# Altium footprint library Revo_element.PcbLib: 178 footprints (part 4 of 12)
Each footprint in its own frame and in the unit in brackets; x right, y up, seen from the top. Pads: shape width x height; smd on the part's side, far side on the other; paste and mask are expansions set on the pad; w line width, h text height; cw(c..) or ccw(c..) is an arc to the next point about the centre after c.
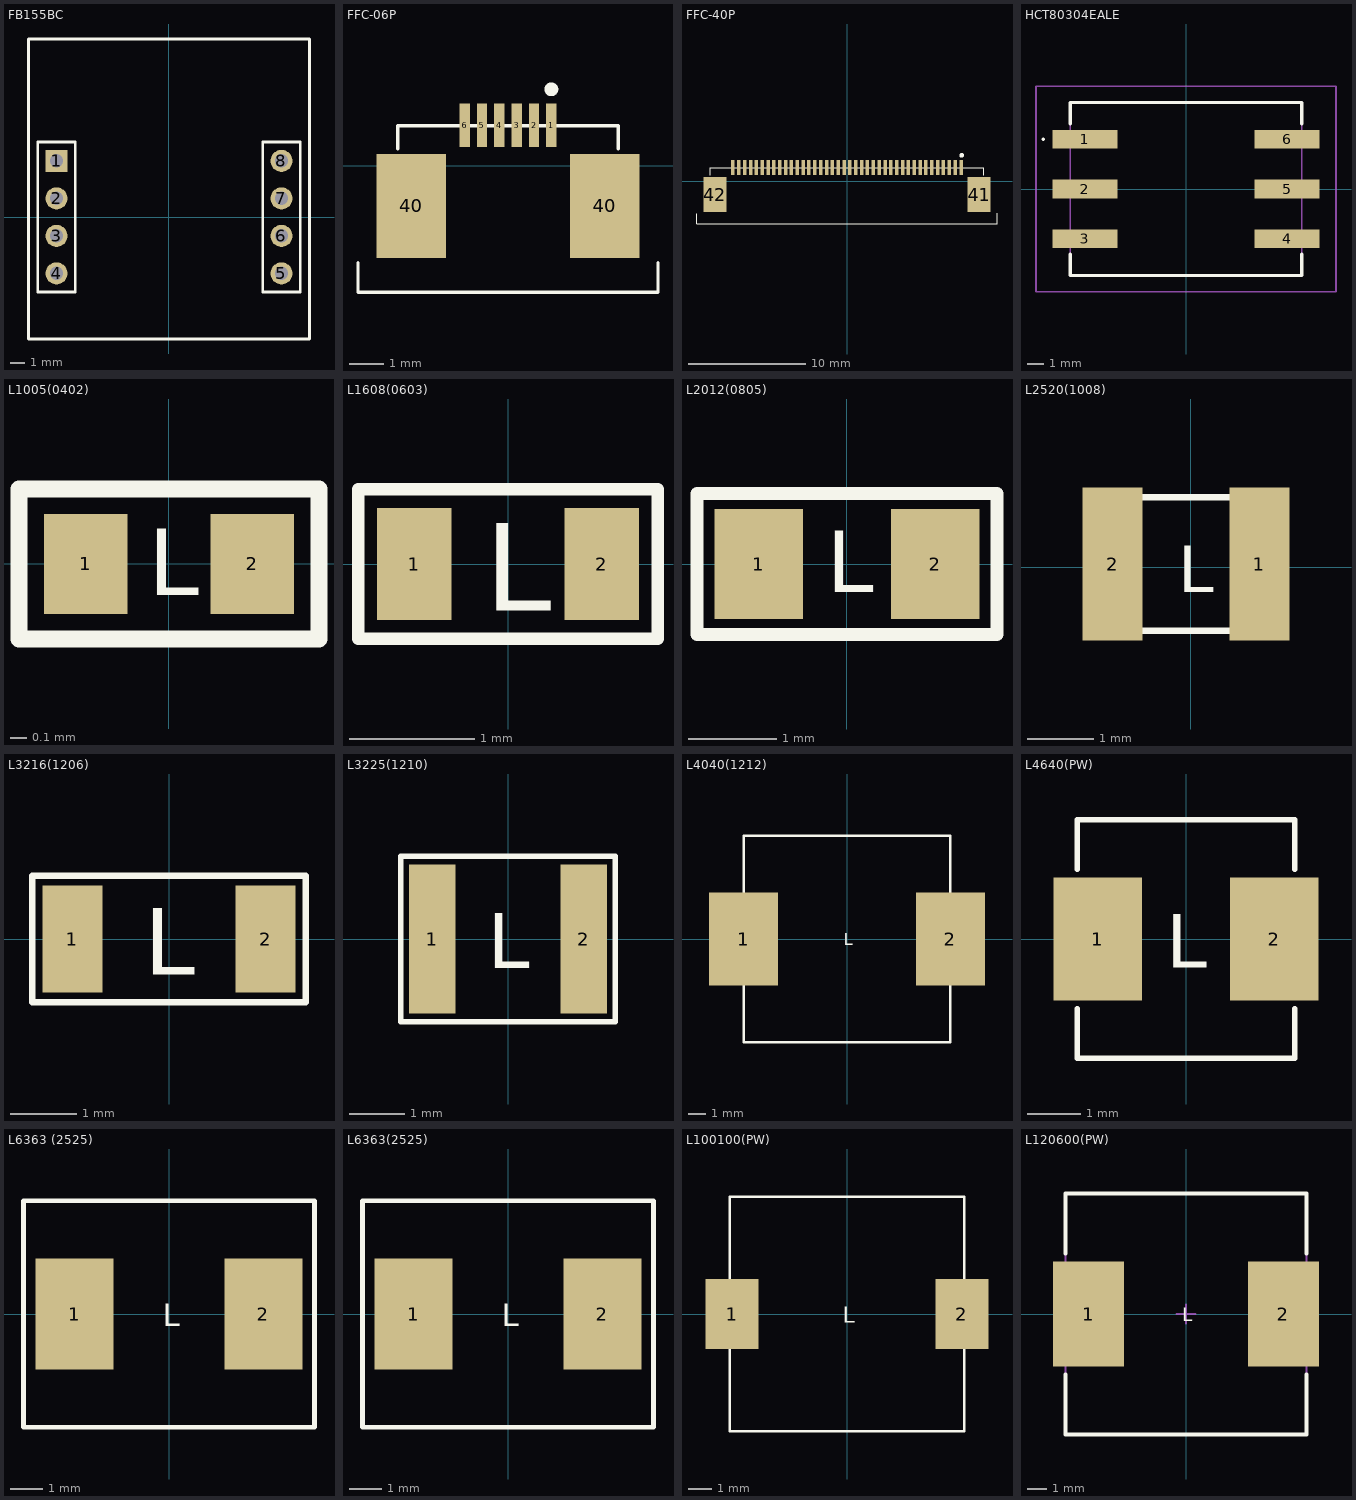
[diagram p3: the footprints below, top view; thin cyan lines are the x and y axes]

## FB155BC [mm]
pads (8):
  rect 1.5x1.5 hole 0.9: 1(-7.62,3.81)
  round 1.5 hole 0.9: 2(-7.62,1.27) 3(-7.62,-1.27) 4(-7.62,-3.81) 5(7.62,-3.81) 6(7.62,-1.27) 7(7.62,1.27) 8(7.62,3.81)
Top Overlay:
  lines w0.2: -9.525,-8.255 9.525,-8.255 9.525,12.065 -9.525,12.065 -9.525,-8.255 ; -8.89,-5.08 -8.89,5.08 -6.35,5.08 -6.35,-5.08 -8.89,-5.08 ; 6.35,-5.08 6.35,5.08 8.89,5.08 8.89,-5.08 6.35,-5.08
3D body: height 0.51, standoff 0, extent -9.423,-8.23 9.5,11.991

## FFC-06P [mm] "7.0' 40-pin TFT Display - 800x480 with Touchscreen"
pads (8):
  rect 0.3x1.25 smd: 1(-7.25,1.163) 2(-7.75,1.163) 3(-8.25,1.163) 4(-8.75,1.163) 5(-9.25,1.163) 6(-9.75,1.163)
  rect 2x3 smd: 40(-11.29,-1.162) 40(-5.71,-1.162)
Top Overlay:
  lines w0.1: -12.825,-2.8 -12.825,-3.65 -4.2,-3.65 ; -11.675,0.488 -11.675,1.15 -5.35,1.15 ; -5.325,0.488 -5.325,1.15 ; -4.175,-3.65 -4.175,-2.8
  lines w0.2: -7.25,2.1 cw(c-7.25,2.2) -7.25,2.3 cw(c-7.25,2.2) -7.25,2.1
3D body "FPC-6.stp": height 2.11, standoff 0, extent -12.15,-4.35 -4.85,1.5

## FFC-40P [mm] "7.0' 40-pin TFT Display - 800x480 with Touchscreen"
pads (42):
  rect 0.3x1.25 smd: 1(9.75,1.163) 2(9.25,1.163) 3(8.75,1.163) 4(8.25,1.163) 5(7.75,1.163) 6(7.25,1.163) 7(6.75,1.163) 8(6.25,1.163) 9(5.75,1.163) 10(5.25,1.163) 11(4.75,1.163) 12(4.25,1.163) 13(3.75,1.163) 14(3.25,1.163) 15(2.75,1.163) 16(2.25,1.163) 17(1.75,1.163) 18(1.25,1.163) 19(0.75,1.163) 20(0.25,1.163) 21(-0.25,1.163) 22(-0.75,1.163) 23(-1.25,1.163) 24(-1.75,1.163) 25(-2.25,1.163) 26(-2.75,1.163) 27(-3.25,1.163) 28(-3.75,1.163) 29(-4.25,1.163) 30(-4.75,1.163) 31(-5.25,1.163) 32(-5.75,1.163) 33(-6.25,1.163) 34(-6.75,1.163) 35(-7.25,1.163) 36(-7.75,1.163) 37(-8.25,1.163) 38(-8.75,1.163) 39(-9.25,1.163) 40(-9.75,1.163)
  rect 2x3 smd: 41(11.29,-1.162) 42(-11.29,-1.162)
Top Overlay:
  lines w0.1: -12.825,-2.8 -12.825,-3.65 12.825,-3.65 12.825,-2.75 ; -11.675,0.488 -11.675,1.15 11.675,1.15 11.675,0.488
  lines w0.2: 9.8,2.1 ccw(c9.8,2.2) 9.8,2.3 ccw(c9.8,2.2) 9.8,2.1
3D body "FPC-40.stp": height 2.11, standoff 0, extent -12.18,-4.65 12.12,1.2

## HCT80304EALE [mm]
pads (6):
  rect 4x1.14 smd: 1(-6.2,3.05) 2(-6.2,0) 3(-6.2,-3.05) 4(6.2,-3.05) 5(6.2,0) 6(6.2,3.05)
Top Overlay:
  lines w0.1: -8.8,3.05 cw(c-8.75,3.05) -8.7,3.05 cw(c-8.75,3.05) -8.8,3.05
  lines w0.2: -7.1,-4 -7.1,-5.3 7.1,-5.3 7.1,-4 ; -7.1,4 -7.1,5.3 7.1,5.3 7.1,4
Mechanical 13:
  lines w0.1: -7.1,-5.3 7.1,-5.3 7.1,5.3 -7.1,5.3 -7.1,-5.3
Mechanical 15:
  lines w0.1: -9.2,-6.3 9.2,-6.3 9.2,6.3 -9.2,6.3 -9.2,-6.3
3D body "HCT80304EAL-E.stp": height 8.6, standoff 0, extent -8.086,-5.3 8.086,5.3

## L1005(0402) [mm] "Chip Inductor 1005(0402)"
pads (2):
  rect 0.5x0.6 smd: 1(-0.5,0) 2(0.5,0)
Top Overlay:
  lines w0.1: -0.9,-0.45 0.9,-0.45 0.9,0.45 -0.9,0.45 -0.9,-0.45
  text "L" at -0.125,-0.188 h0.4
3D body "User Library-Chip Inductor.step": height 0.5, standoff 0, extent -0.5,-0.3 0.5,0.3

## L1608(0603) [mm] "Chip Inductor 1608(0603)"
pads (2):
  rect 0.6x0.9 smd: 1(-0.75,0) 2(0.75,0)
Top Overlay:
  lines w0.1: -1.2,-0.6 -1.2,0.6 1.2,0.6 1.2,-0.6 -1.2,-0.6
  text "L" at -0.188,-0.375 h0.7
3D body "User Library-Chip Inductor.step": height 0.8, standoff 0, extent -0.8,-0.47 0.8,0.48

## L2012(0805) [mm] "Chip Inductor 2012(0805)"
pads (2):
  rect 1x1.25 smd: 1(-1,0) 2(1,0)
Top Overlay:
  lines w0.15: -1.7,-0.8 1.7,-0.8 1.7,-0.5 1.7,0.4 1.7,0.8 -1.7,0.8 -1.7,-0.8
  text "L" at -0.228,-0.321 h0.7
3D body "L_0805.stp": height 0.61, standoff 0.01, extent -1,-0.625 1,0.625

## L2520(1008) [mm] "Chip Inductor 2520(1008)"
pads (2):
  rect 0.9x2.3 smd: 1(1.029,0.051) 2(-1.171,0.051)
Top Overlay:
  lines w0.1: -1.321,-0.949 1.179,-0.949 1.179,1.051 -1.321,1.051 -1.321,-0.949
  text "L" at -0.188,-0.375 h0.7
Mechanical 13:
  text "L" at 0.054,0.239 h0.4
3D body: height 1.2, standoff 0, extent -1.321,-0.949 1.179,1.051

## L3216(1206) [mm] "Chip Inductor 3216(1206)"
height 1.6
pads (2):
  rect 0.9x1.6 smd: 1(-1.45,0) 2(1.45,0)
Top Overlay:
  lines w0.1: -2.05,-0.95 -2.05,0.95 2.05,0.95 2.05,-0.95 -2.05,-0.95
  text "L" at -0.37,-0.535 h1
3D body "User Library-Chip Resistor2.step": height 0.85, standoff 0.01, extent -1.6,-0.8 1.6,0.8

## L3225(1210) [mm] "Chip Inductor L3225(1210)"
height 1.6
pads (2):
  rect 0.85x2.7 smd: 1(-1.375,0) 2(1.375,0)
Top Overlay:
  lines w0.1: -1.95,-1.5 1.95,-1.5 1.95,1.5 -1.95,1.5 -1.95,-1.5
  text "L" at -0.37,-0.535 h1
3D body "LQM32PN1R0MG0L.stp": height 1, standoff 0, extent -1.6,-1.25 1.6,1.25

## L4040(1212) [mm]
pads (2):
  rect 4x5.4 smd: 1(-6,0) 2(6,0)
Top Overlay:
  lines w0.15: -6,-6 6,-6 6,6 -6,6 -6,-6
  text "L" at -0.188,-0.375 h0.7
3D body: height 8, standoff 0, extent -6,-6 6,6

## L4640(PW) [mm] "Chip Inductor 3216(1206)_150129"
height 1.6
pads (2):
  rect 1.65x2.3 smd: 1(-1.65,0) 2(1.65,0)
Top Overlay:
  lines w0.1: -2.03,-1.303 -2.03,-2.225 2.03,-2.225 2.03,-1.303 ; -2.03,1.303 -2.03,2.225 2.03,2.225 2.03,1.303
  text "L" at -0.37,-0.535 h1
3D body: height 1.5, standoff 0, extent -2.03,-2.225 2.03,2.225

## L6363 (2525) [mm] "IHLP2525CZER6R8MA1"
pads (2):
  rect 2.42x3.43 smd: 1(-2.92,0) 2(2.92,0)
Top Overlay:
  lines w0.15: -4.5,-3.5 -4.5,3.5 4.5,3.5 4.5,-3.5 -4.5,-3.5
  text "L" at -0.188,-0.375 h0.7
3D body: height 3, standoff 0, extent -3.25,-3.244 3.25,3.244

## L6363(2525) [mm] "IHLP2525CZER6R8MA1"
pads (2):
  rect 2.42x3.43 smd: 1(-2.92,0) 2(2.92,0)
Top Overlay:
  lines w0.15: -4.5,-3.5 4.5,-3.5 4.5,3.5 -4.5,3.5 -4.5,-3.5
  text "L" at -0.188,-0.375 h0.7
3D body: height 3, standoff 0, extent -3.25,-3.244 3.25,3.244

## L100100(PW) [mm] "10x10 Power Inductor"
height 4
pads (2):
  rect 2.3x3.05 smd: 1(-5,0) 2(5,0)
Top Overlay:
  lines w0.1: -5.1,-5.1 5.1,-5.1 5.1,5.1 -5.1,5.1 -5.1,-5.1
  text "L" at -0.188,-0.375 h0.7
3D body: height 4.8, standoff 0, extent -5.144,-5.144 5.144,5.144

## L120600(PW) [mm] "Precision Wire Wound Inductor, 2-Leads, Body 12.50x12.50mm, IPC Medium Density"
height 4
pads (2):
  rect 3.7x5.5 smd: 1(-5.1,0) 2(5.1,0)
Top Overlay:
  lines w0.2: -6.3,-3.15 -6.3,-6.3 6.3,-6.3 6.3,-3.15 ; -6.3,3.15 -6.3,6.3 6.3,6.3 6.3,3.15
  text "L" at -0.188,-0.375 h0.7
Mechanical 13:
  lines w0.1: -6.3,-6.3 -6.3,6.3 6.3,6.3 6.3,-6.3 -6.3,-6.3
Mechanical 15:
  lines w0.1: -0.5,0 0.5,0 ; 0,-0.5 0,0.5
3D body: height 4, standoff 0, extent -6.3,-6.3 6.3,6.3